# EAGLE library part LTC6812ILWE-1#3ZZPBF (library LTC6812ILWE-1#3ZZPBF)
Battery Management Multicell Bat Mon s Source: Datasheet <https://www.analog.com/media/en/technical-documentation/data-sheets/LTC6812-1.pdf>
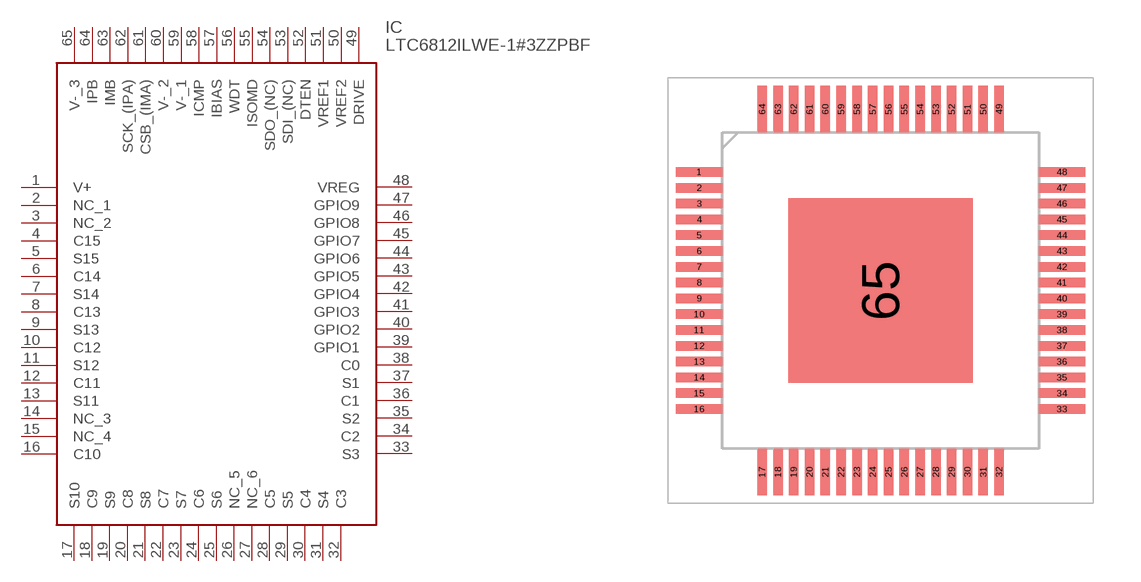
[diagram p0: symbol with the pads of QFP50P1200X1200X160-65N; footprint QFP50P1200X1200X160-65N]

Designator prefix IC

## LTC6812ILWE-1#3ZZPBF (Description: Battery Management Multicell Bat Mon s; Height: 1.6mm; Manufacturer_Name: Analog Devices; Manufacturer_Part_Number: LTC6812ILWE-1#3ZZPBF; Mouser_Part_Number: 584-6812ILWE-13ZZPBF)  [QFP50P1200X1200X160-65N]
1  V+
2  NC_1
3  NC_2
4  C15
5  S15
6  C14
7  S14
8  C13
9  S13
10  C12
11  S12
12  C11
13  S11
14  NC_3
15  NC_4
16  C10
17  S10
18  C9
19  S9
20  C8
21  S8
22  C7
23  S7
24  C6
25  S6
26  NC_5
27  NC_6
28  C5
29  S5
30  C4
31  S4
32  C3
33  S3
34  C2
35  S2
36  C1
37  S1
38  C0
39  GPIO1
40  GPIO2
41  GPIO3
42  GPIO4
43  GPIO5
44  GPIO6
45  GPIO7
46  GPIO8
47  GPIO9
48  VREG
49  DRIVE
50  VREF2
51  VREF1
52  DTEN
53  SDI_(NC)
54  SDO_(NC)
55  ISOMD
56  WDT
57  IBIAS
58  ICMP
59  V-_1
60  V-_2
61  CSB_(IMA)
62  SCK_(IPA)
63  IMB
64  IPB
65  V-_3

## Footprint QFP50P1200X1200X160-65N (pad centres in mm)
LTC6813ILWE-1#3ZZPBF
smd 1.475 x 0.3: 1 -5.738,3.75; 2 -5.738,3.25; 3 -5.738,2.75; 4 -5.738,2.25; 5 -5.738,1.75; 6 -5.738,1.25; 7 -5.738,0.75; 8 -5.738,0.25; 9 -5.738,-0.25; 10 -5.738,-0.75; 11 -5.738,-1.25; 12 -5.738,-1.75; 13 -5.738,-2.25; 14 -5.738,-2.75; 15 -5.738,-3.25; 16 -5.738,-3.75; 33 5.738,-3.75; 34 5.738,-3.25; 35 5.738,-2.75; 36 5.738,-2.25; 37 5.738,-1.75; 38 5.738,-1.25; 39 5.738,-0.75; 40 5.738,-0.25; 41 5.738,0.25; 42 5.738,0.75; 43 5.738,1.25; 44 5.738,1.75; 45 5.738,2.25; 46 5.738,2.75; 47 5.738,3.25; 48 5.738,3.75
smd 0.3 x 1.475: 17 -3.75,-5.738; 18 -3.25,-5.738; 19 -2.75,-5.738; 20 -2.25,-5.738; 21 -1.75,-5.738; 22 -1.25,-5.738; 23 -0.75,-5.738; 24 -0.25,-5.738; 25 0.25,-5.738; 26 0.75,-5.738; 27 1.25,-5.738; 28 1.75,-5.738; 29 2.25,-5.738; 30 2.75,-5.738; 31 3.25,-5.738; 32 3.75,-5.738; 49 3.75,5.738; 50 3.25,5.738; 51 2.75,5.738; 52 2.25,5.738; 53 1.75,5.738; 54 1.25,5.738; 55 0.75,5.738; 56 0.25,5.738; 57 -0.25,5.738; 58 -0.75,5.738; 59 -1.25,5.738; 60 -1.75,5.738; 61 -2.25,5.738; 62 -2.75,5.738; 63 -3.25,5.738; 64 -3.75,5.738
smd 5.84 x 5.84: 65 0,0